# EAGLE library part PIC18(L)F14K22 (library Microchip PIC18F12K44_esao)
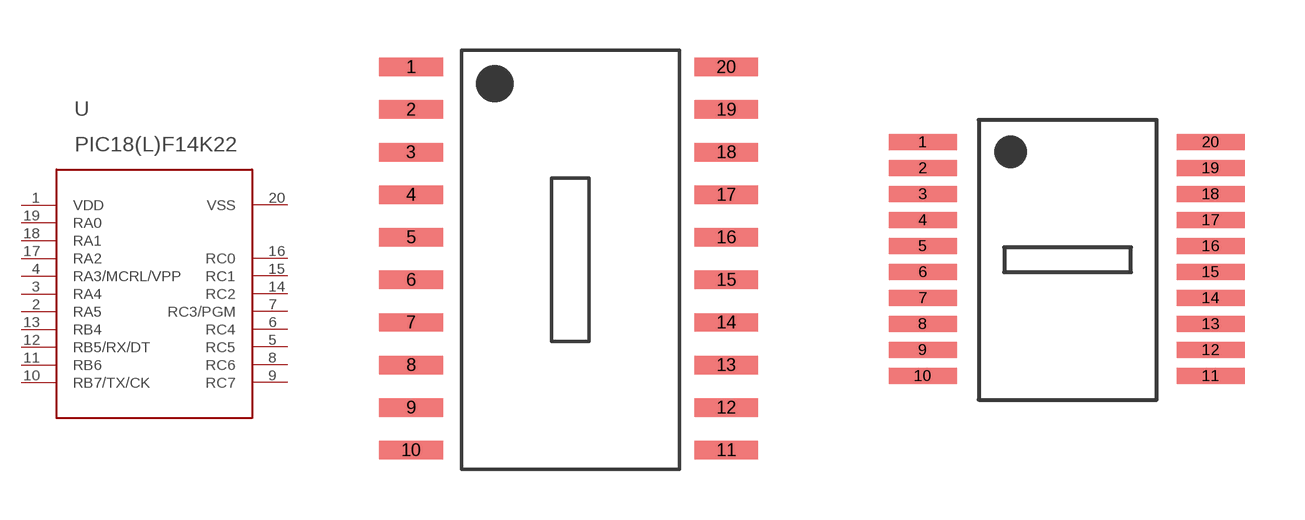
[diagram p0: symbol with the pads of SOIC-20; footprints SOIC-20, SSOP-20]

Designator prefix -

## PIC18(L)F14K22-SOIC  [SOIC-20]
1  VDD  pwr
2  RA5
3  RA4
4  RA3/MCRL/VPP
5  RC5
6  RC4
7  RC3/PGM
8  RC6
9  RC7
10  RB7/TX/CK
11  RB6
12  RB5/RX/DT
13  RB4
14  RC2
15  RC1
16  RC0
17  RA2
18  RA1
19  RA0
20  VSS  pwr

## PIC18(L)F14K22-SSOP  [SSOP-20]
Pads as for SOIC-20

## Footprint SOIC-20 (pad centres in mm)
smd 1.9 x 0.55: 1 -5.08,5.08; 2 -5.08,3.81; 3 -5.08,2.54; 4 -5.08,1.27; 5 -5.08,0; 6 -5.08,-1.27; 7 -5.08,-2.54; 8 -5.08,-3.81; 9 -5.08,-5.08; 10 -5.08,-6.35; 11 4.32,-6.35; 12 4.32,-5.08; 13 4.32,-3.81; 14 4.32,-2.54; 15 4.32,-1.27; 16 4.32,0; 17 4.32,1.27; 18 4.32,2.54; 19 4.32,3.81; 20 4.32,5.08

## Footprint SSOP-20 (pad centres in mm)
smd 1.7 x 0.4: 1 0,5.85; 2 0,5.2; 3 0,4.55; 4 0,3.9; 5 0,3.25; 6 0,2.6; 7 0,1.95; 8 0,1.3; 9 0,0.65; 10 0,0; 11 7.2,0; 12 7.2,0.65; 13 7.2,1.3; 14 7.2,1.95; 15 7.2,2.6; 16 7.2,3.25; 17 7.2,3.9; 18 7.2,4.55; 19 7.2,5.2; 20 7.2,5.85